# Altium schematic symbol library TC74A0-5.SCHLIB: 1 symbol
Pins are listed as number, name and electrical type; pins without a type are passive.

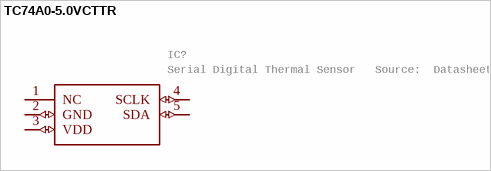
[diagram p0: symbol TC74A0-5.0VCTTR]

## TC74A0-5.0VCTTR
designator IC?, comment Serial Digital Thermal Sensor   Source:  Datasheet
Manufacturer_Name: Microchip; GateName_1: G$1; SymbolName_1: TC74A0-5.0VCTTR; LibraryName: TC74A0-5.0VCTTR; DeviceSetName: TC74A0-5.0VCTTR; Package: SOT95P280X145-5N; Manufacturer_Part_Number: TC74A0-5.0VCTTR; Mouser_Part_Number: 579-TC74A0-5.0VCTTR; Mouser_Price-Stock: https://www.mouser.co.uk/ProductDetail/Microchip-Technology/TC74A0-50VCTTR?qs=RnzODY3cU8u6j2kV6CfePA%3D%3D; Arrow_Part_Number: TC74A0-5.0VCTTR; Arrow_Price-Stock: https://www.arrow.com/en/products/tc74a0-5.0vcttr/microchip-technology; Description: Serial Digital Thermal Sensor; Height: 1.45mm
footprint SOT95P280X145-5N
pins: 1 NC, 2 GND (io), 3 VDD (io), 4 SCLK (io), 5 SDA (io)